# Altium footprint library Discrete.PCBLIB: 128 footprints (part 3 of 8)
Each footprint in its own frame and in the unit in brackets; x right, y up, seen from the top. Pads: shape width x height; smd on the part's side, far side on the other; paste and mask are expansions set on the pad; w line width, h text height; cw(c..) or ccw(c..) is an arc to the next point about the centre after c.
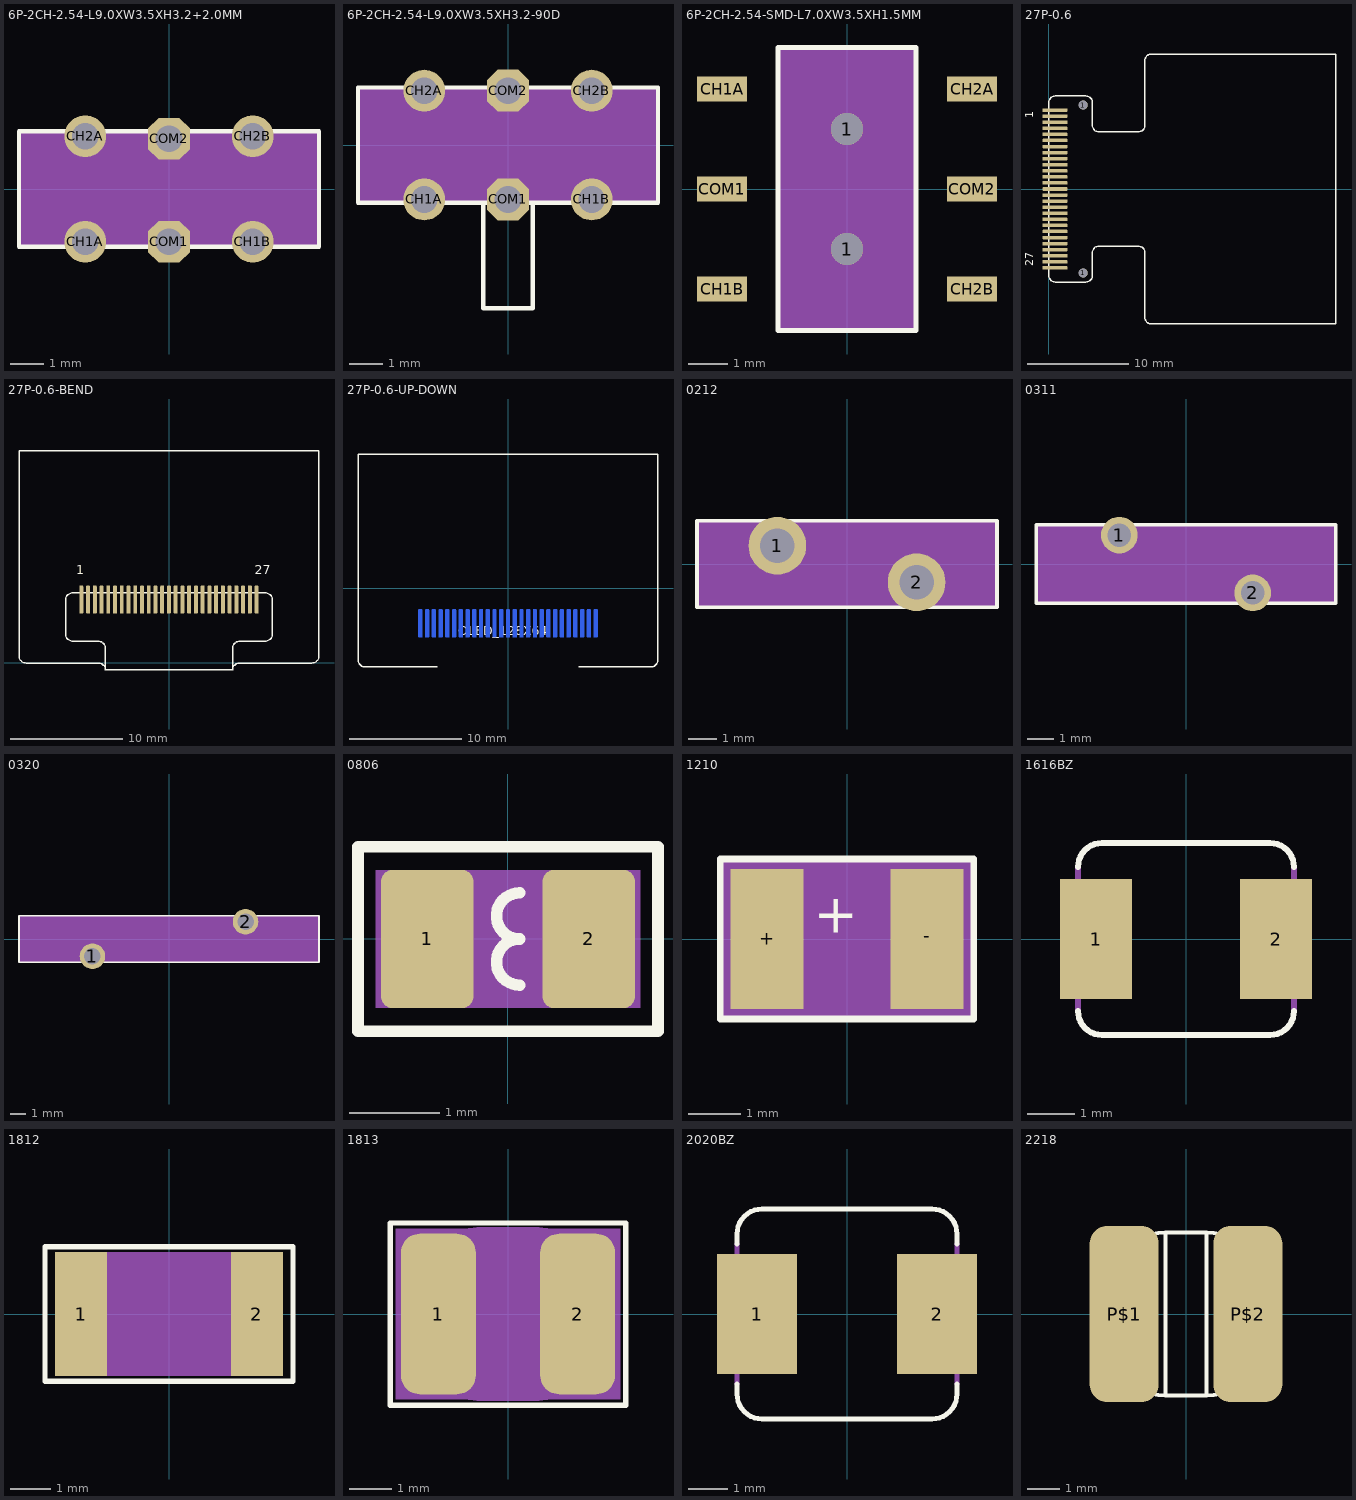
[diagram p2: the footprints below, top view; thin cyan lines are the x and y axes]

## 6P-2CH-2.54-L9.0XW3.5XH3.2+2.0MM [mil]
pads (6):
  round 50 hole 32: CH1A(-100,-62.99) CH1B(100,-62.99) CH2A(-100,62.99) CH2B(100,62.99)
  oct 50x50 hole 32: COM1(0,-62.99) COM2(0,60)
Top Overlay:
  lines w5: -179.13,-68.9 -179.13,68.9 179.13,68.9 179.13,-68.9 -179.13,-68.9
Mechanical 27:
  region: 179.13,-68.9 179.13,68.9 -179.13,68.9 -179.13,-68.9

## 6P-2CH-2.54-L9.0XW3.5XH3.2-90D [mil]
pads (6):
  round 50 hole 32: CH1A(-100,-64.96) CH1B(100,-64.96) CH2A(-100,64.96) CH2B(100,64.96)
  oct 50x50 hole 32: COM1(0,-64.96) COM2(0,64.96)
Top Overlay:
  lines w5: -29.53,-68.9 29.53,-68.9 ; -29.53,-68.9 -179.13,-68.9 -179.13,68.9 179.13,68.9 179.13,-68.9 29.53,-68.9 ; -29.53,-68.9 -29.53,-194.88 29.53,-194.88 29.53,-68.9
Mechanical 27:
  rectangle: -179.13,-68.9 179.13,68.9

## 6P-2CH-2.54-SMD-L7.0XW3.5XH1.5MM [mil]
pads (8):
  round 32 hole 32: 1(0,-60) 1(0,60)
  rect 50x25 smd: CH1A(-125,100) CH1B(-125,-100) CH2A(125,100) CH2B(125,-100) COM1(-125,0) COM2(125,0)
Top Overlay:
  lines w5: -68.9,-141.73 68.9,-141.73 68.9,141.73 -68.9,141.73 -68.9,-141.73
Mechanical 27:
  rectangle: -68.9,-141.73 68.9,141.73

## 27P-0.6 [mm]
pads (29):
  rrect50% 2.5x0.35 smd: 1(0.6,7.8) 2(0.6,7.2) 3(0.6,6.6) 4(0.6,6) 5(0.6,5.4) 6(0.6,4.8) 7(0.6,4.2) 8(0.6,3.6) 9(0.6,3) 10(0.6,2.4) 11(0.6,1.8) 12(0.6,1.2) 13(0.6,0.6) 14(0.6,0) 15(0.6,-0.6) 16(0.6,-1.2) 17(0.6,-1.8) 18(0.6,-2.4) 19(0.6,-3) 20(0.6,-3.6) 21(0.6,-4.2) 22(0.6,-4.8) 23(0.6,-5.4) 24(0.6,-6) 25(0.6,-6.6) 26(0.6,-7.2) 27(0.6,-7.8)
  round 0.889 hole 0.889: 1(3.4,-8.3) 1(3.4,8.3)
Top Overlay:
  lines w0.127: 0,-8.565 ccw(c0.635,-8.565) 0.635,-9.2 3.665,-9.2 ccw(c3.665,-8.565) 4.3,-8.565 4.3,-6.295 cw(c4.935,-6.295) 4.935,-5.66 8.865,-5.66 cw(c8.865,-6.295) 9.5,-6.295 9.5,-12.715 ccw(c10.135,-12.715) 10.135,-13.35 28.4,-13.35 28.4,13.35 10.135,13.35 ccw(c10.135,12.715) 9.5,12.715 9.5,6.295 cw(c8.865,6.295) 8.865,5.66 4.935,5.66 cw(c4.935,6.295) 4.3,6.295 4.3,8.565 ccw(c3.665,8.565) 3.665,9.2 0.635,9.2 ccw(c0.635,8.565) 0,8.565 0,-8.565
  text "1" at -1.27,6.985 h1.38
  text "27" at -1.27,-7.62 h1.38

## 27P-0.6-BEND [mm]
pads (27):
  rrect50% 0.35x2.5 smd: 1(-7.805,5.624) 2(-7.205,5.624) 3(-6.605,5.624) 4(-6.005,5.624) 5(-5.405,5.624) 6(-4.805,5.624) 7(-4.205,5.624) 8(-3.605,5.624) 9(-3.005,5.624) 10(-2.405,5.624) 11(-1.805,5.624) 12(-1.205,5.624) 13(-0.605,5.624) 14(-0.005,5.624) 15(0.595,5.624) 16(1.195,5.624) 17(1.795,5.624) 18(2.395,5.624) 19(2.995,5.624) 20(3.595,5.624) 21(4.195,5.624) 22(4.795,5.624) 23(5.395,5.624) 24(5.995,5.624) 25(6.595,5.624) 26(7.195,5.624) 27(7.795,5.624)
Top Overlay:
  lines w0.127: -5.664,1.245 -5.664,-0.635 5.664,-0.635 5.664,1.245 ; -5.66,-0.66 ccw(c-6.295,-0.66) -6.295,-0.025 -12.715,-0.025 cw(c-12.715,0.61) -13.35,0.61 -13.35,18.875 13.35,18.875 13.35,0.61 cw(c12.715,0.61) 12.715,-0.025 6.295,-0.025 ccw(c6.295,-0.66) 5.66,-0.66 ; -5.66,1.288 ccw(c-6.295,1.288) -6.295,1.923 -8.565,1.923 cw(c-8.565,2.558) -9.2,2.558 -9.2,5.588 cw(c-8.565,5.588) -8.565,6.223 8.565,6.223 cw(c8.565,5.588) 9.2,5.588 9.2,2.558 cw(c8.565,2.558) 8.565,1.923 6.295,1.923 ccw(c6.295,1.288) 5.66,1.288
  text "1" at -8.255,7.62 h1.38
  text "27" at 7.62,7.62 h1.38
Mechanical 16:
  text "OLED_128X64" at -8.255,8.255 h2.6

## 27P-0.6-UP-DOWN [mm]
pads (27):
  rrect50% 0.35x2.5 smd far side: 1(-7.8,-3.14) 2(-7.2,-3.14) 3(-6.6,-3.14) 4(-6,-3.14) 5(-5.4,-3.14) 6(-4.8,-3.14) 7(-4.2,-3.14) 8(-3.6,-3.14) 9(-3,-3.14) 10(-2.4,-3.14) 11(-1.8,-3.14) 12(-1.2,-3.14) 13(-0.6,-3.14) 14(0,-3.14) 15(0.6,-3.14) 16(1.2,-3.14) 17(1.8,-3.14) 18(2.4,-3.14) 19(3,-3.14) 20(3.6,-3.14) 21(4.2,-3.14) 22(4.8,-3.14) 23(5.4,-3.14) 24(6,-3.14) 25(6.6,-3.14) 26(7.2,-3.14) 27(7.8,-3.14)
Top Overlay:
  lines w0.127: -6.295,-7.01 -12.715,-7.01 cw(c-12.715,-6.375) -13.35,-6.375 -13.35,11.89 13.35,11.89 13.35,-6.375 cw(c12.715,-6.375) 12.715,-7.01 6.295,-7.01
  text "OLED_128X64" at -4.445,-4.445 h1.38
Bottom Overlay:
  lines w0.127: -5.66,-6.967 ccw(c-6.295,-6.967) -6.295,-6.332 -8.565,-6.332 cw(c-8.565,-5.697) -9.2,-5.697 -9.2,-3.175 cw(c-8.565,-3.175) -8.565,-2.54 8.565,-2.54 cw(c8.565,-3.175) 9.2,-3.175 9.2,-5.697 cw(c8.565,-5.697) 8.565,-6.332 6.295,-6.332 ccw(c6.295,-6.967) 5.66,-6.967
  text "1" at -7.62,-1.27 h1.38
  text "27" at 8.255,-1.27 h1.38

## 0212 [mm]
pads (2):
  round 2 hole 1.2: 1(-2.413,0.635) 2(2.413,-0.635)
Top Overlay:
  lines w0.127: -5.2,-1.5 5.2,-1.5 5.2,1.5 -5.2,1.5 -5.2,-1.5
Mechanical 27:
  rectangle: -5.2,-1.5 5.2,1.5

## 0311 [mil]
pads (2):
  round 55 hole 35: 1(-100,43.31) 2(100,-43.31)
Top Overlay:
  lines w5: -224.41,-59.06 224.41,-59.06 224.41,59.06 -224.41,59.06 -224.41,-59.06
Mechanical 27:
  rectangle: -225,-60 225,60

## 0320 [mil]
pads (2):
  round 66.93 hole 43.31: 1(-200.79,-45.28) 2(200.79,45.28)
Top Overlay:
  lines w5: -393.7,-61.02 393.7,-61.02 393.7,61.02 -393.7,61.02 -393.7,-61.02
Mechanical 27:
  rectangle: -393.7,-61.02 393.7,61.02

## 0806 [mil]
pads (2):
  rrect25% 40x60 smd: 1(-35,0) 2(35,0)
Top Overlay:
  lines w5: 5,-20 cw(c5,-10) 5,0 cw(c5,10) 5,20 ; -65,-40 65,-40 65,40 -65,40 -65,-40
Mechanical 27:
  rectangle: -57.5,-30 57.5,30

## 1210 [mil]
pads (2):
  rect 55x105 smd: +(-60,0) -(60,0)
Top Overlay:
  lines w5: -95,-60 -95,60 95,60 95,-60 -95,-60
  text "+" at -25,-5 h49.6
Mechanical 27:
  rectangle: -95,-60 95,60

## 1616BZ [mil]
pads (2):
  rect 60x100 smd: 1(-75,0) 2(75,0)
Top Overlay:
  lines w5: -90,-60 ccw(c-70,-60) -70,-80 70,-80 ccw(c70,-60) 90,-60 ; -90,60 cw(c-70,60) -70,80 70,80 cw(c70,60) 90,60
Mechanical 16:
  lines w5: -90,-60 -90,60 ; 90,-60 90,60

## 1812 [mil]
pads (2):
  rect 50x120 smd: 1(-85,0) 2(85,0)
Top Overlay:
  lines w5: -120,-65 120,-65 120,65 -120,65 -120,-65
Mechanical 16:
  region: 0,0 10,0 10,10 0,10
  region: 0,0 10,0 10,10 0,10
Mechanical 27:
  rectangle: -110,-60 110,60

## 1813 [mil]
pads (2):
  rrect50% 70x150 smd: 1(-65,0) 2(65,0)
Top Overlay:
  lines w5: -110,-85 110,-85 110,85 -110,85 -110,-85
Mechanical 16:
  lines w5: -88.58,-19.69 ccw(c-88.58,-0.01) -68.9,0 ccw(c-88.58,0.01) -88.58,19.69 cw(c-24.61,14.77) -19.69,78.74 19.69,78.74 cw(c24.61,14.77) 88.58,19.69 ccw(c88.58,0.01) 68.9,0 ccw(c88.58,-0.01) 88.58,-19.69 cw(c24.61,-14.77) 19.69,-78.74 -19.69,-78.74 cw(c-24.61,-14.77) -88.58,-19.69
Mechanical 27:
  rectangle: -105,-80 105,80

## 2020BZ [mil]
pads (2):
  rect 80x120 smd: 1(-90,0) 2(90,0)
Top Overlay:
  lines w5: -110,-70 -110,-80 ccw(c-85,-80) -85,-105 85,-105 ccw(c85,-80) 110,-80 110,-70 ; -110,70 -110,80 cw(c-85,80) -85,105 85,105 cw(c85,80) 110,80 110,70
Mechanical 16:
  lines w5: -110,-70 -110,70 ; 110,-70 110,70

## 2218 [mil]
pads (2):
  rrect50% 84.65x216.54 smd: P$1(-75.79,0) P$2(75.79,0)
Top Overlay:
  lines w5: -25,-100 -25,100 ; -25,-100 25,-100 ; -25,-100 cw(c-25,-25) -100,-25 ccw(c-100,0) -75,0 ccw(c-100,0) -100,25 cw(c-25,25) -25,100 ; -25,100 25,100 ; 25,-100 25,100 ; 25,-100 ccw(c25,-25) 100,-25 cw(c100,0) 75,0 cw(c100,0) 100,25 ccw(c25,25) 25,100